# EAGLE library part MIC5353YMT (library Regulator)
IC REG LDO 3.3V 0.5A 6TMLF Linear Voltage Regulator IC Positive Adjustable Output 1.25V ~ 5.5V 500mA 6-TMLF® (1.6x1.6) Datasheet <http://ww1.microchip.com/downloads/en/DeviceDoc/mic5353.pdf>
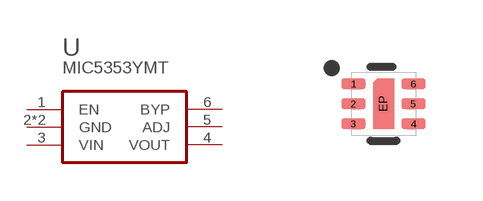
[diagram p9: symbol with the pads of 6-UFDFN; footprint 6-UFDFN]

Designator prefix U

## MIC5353YMT (DATASHEET: http://goo.gl/P1ltCq; DESC: IC REG LDO ADJ 0.5A 6TMLF; MANF: Microchip Technology; MFPN: MIC5353YMT; RATE: 500mA; SIZE: 6-UFDFN; STATUS: Active; TEMP: -40°C ~ 125°C; TYPE: Positive Adjustable; VDROP: 0.16V @ 500mA; VIN: 2.6V~6V; VOUT: 1.25V~5.5V)  [6-UFDFN]
1  EN  in
2  GND  pwr
3  VIN  pwr
4  VOUT  pwr
5  ADJ  pas
6  BYP  pas
EP  GND  pwr

## Footprint 6-UFDFN (pad centres in mm)
Small Outline No-Lead (SON with Tab), 0.50 mm pitch; 6 pin, 1.60 mm L X 1.60 mm W X 0.60 mm H body PCB Libraries Packages
smd 0.6 x 0.27: 1 -0.75,0.5; 2 -0.75,0; 3 -0.75,-0.5; 4 0.75,-0.5; 5 0.75,0; 6 0.75,0.5
smd 0.3 x 1.06: EP 0,0